# Altium footprint library 红外感应开关电路设计.PcbLib: 12 footprints
Each footprint in its own frame and in the unit in brackets; x right, y up, seen from the top. Pads: shape width x height; smd on the part's side, far side on the other; paste and mask are expansions set on the pad; w line width, h text height; cw(c..) or ccw(c..) is an arc to the next point about the centre after c.
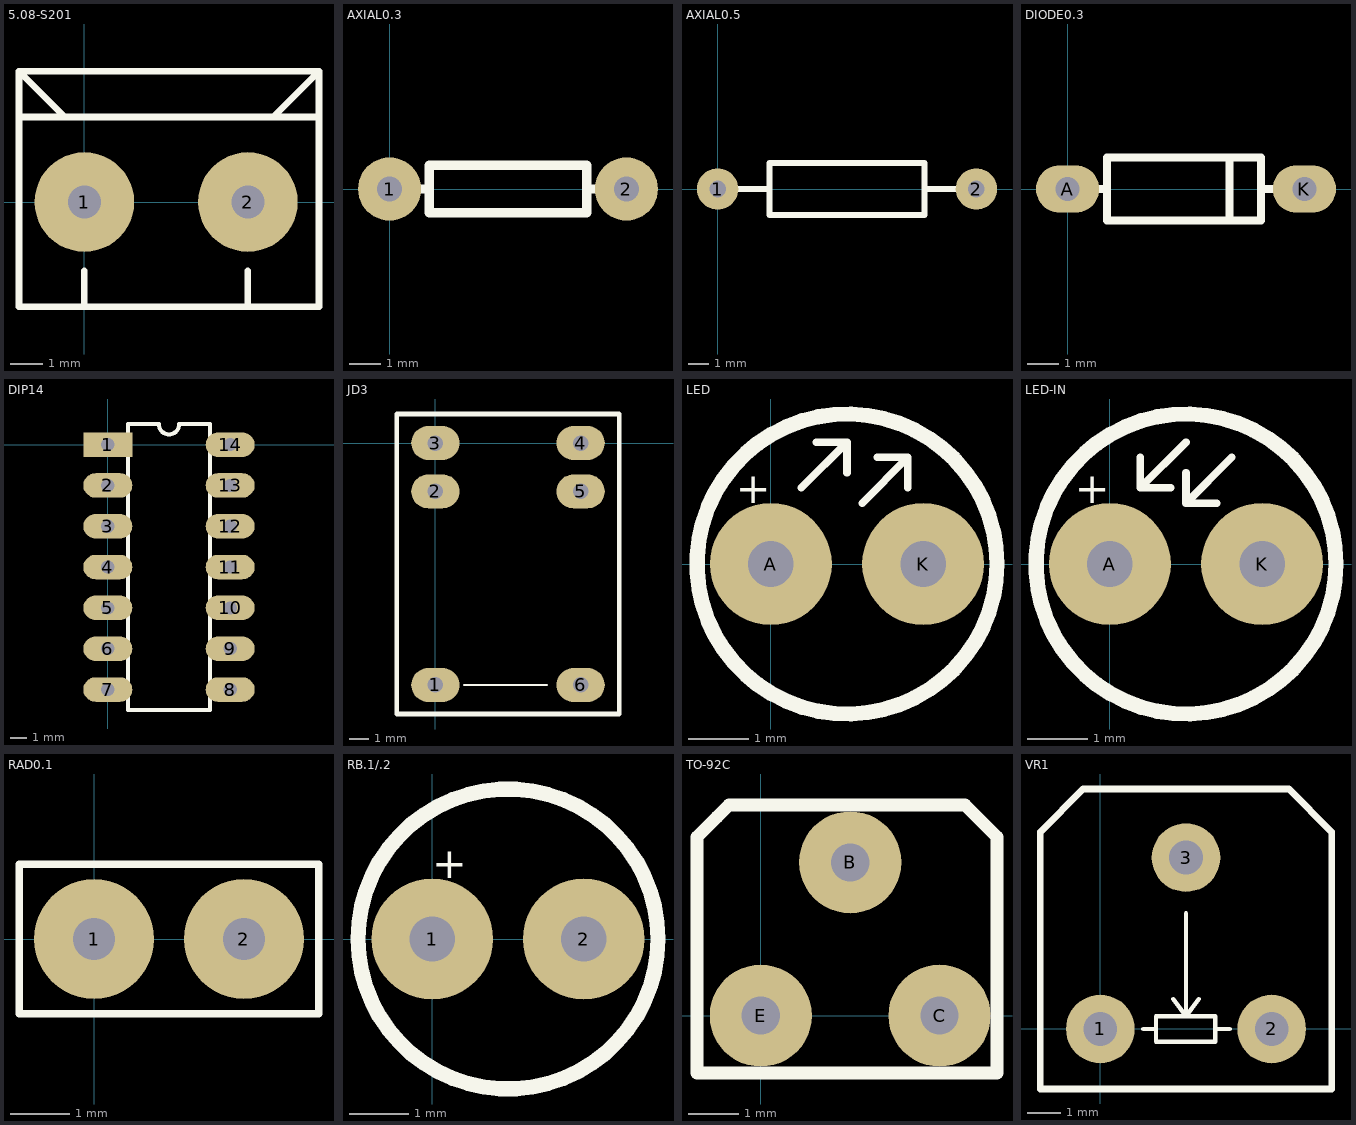
[diagram p0: the footprints below, top view; thin cyan lines are the x and y axes]

## 5.08-S201 [mil]
pads (2):
  round 120 hole 39.37: 1(0,0) 2(196.85,0)
Top Overlay:
  lines w8: -78.74,102.36 280,102.36 ; -23.62,102.36 -78.74,157.48 ; 0,-125.98 0,-82.68 ; 196.85,-125.98 196.85,-82.68 ; 227.32,102.36 282.44,157.48 ; -78.74,157.48 -78.74,-11.81 -78.74,-125.98 282.44,-125.98 282.44,157.48 ; -78.74,157.48 -78.74,157.48 ; -78.74,157.48 282.44,157.48

## AXIAL0.3 [mil]
pads (2):
  round 80 hole 32: 1(0,0) 2(300,0)
Top Overlay:
  lines w12: 41,0 50,0 ; 259,0 250,0 ; 250,0 250,-30 50,-30 50,30 250,30 250,0

## AXIAL0.5 [mil]
pads (2):
  round 80 hole 32: 1(0,0) 2(500,0)
Top Overlay:
  lines w12: 40,0 100,0 ; 400,0 460,0 ; 100,-50 100,50 400,50 400,-50 100,-50

## DIODE0.3 [mil]
pads (2):
  oval 80x60 hole 30: A(0,0) K(300,0)
Top Overlay:
  lines w10: 0,0 50,0 ; 140,-40 245,-40 245,0 245,40 150,40 50,40 50,0 ; 150,-40 50,-40 50,0 ; 205,-40 205,40 ; 250,0 300,0

## DIP14 [mil]
pads (14):
  rect 120x60 hole 32: 1(0,0)
  oval 120x60 hole 32: 2(0,-100) 3(0,-200) 4(0,-300) 5(0,-400) 6(0,-500) 7(0,-600) 8(300,-600) 9(300,-500) 10(300,-400) 11(300,-300) 12(300,-200) 13(300,-100) 14(300,0)
Top Overlay:
  lines w10: 50,-650 250,-650 250,50 175,50 cw(c150,50) 125,50 50,50 50,-650

## JD3 [mil]
pads (6):
  oval 100x70 hole 32: 1(0,-500) 2(0,-100) 3(0,0) 4(300,0) 5(300,-100) 6(300,-500)
Top Overlay:
  lines w5: 60,-500 230,-500 ; 140,-500 150,-500
  lines w10: -80,-560 380,-560 380,60 0,60 -80,60 -80,-560

## LED [mil]
pads (2):
  round 80 hole 30: A(0,0) K(100,0)
Top Overlay:
  circle w10: c50,0 r98.49
  lines w5: 20,50 50,80 ; 30,80 50,80 ; 50,60 50,80 ; 60,40 90,70 ; 70,70 90,70 ; 90,50 90,70
  text "+" at 0,40 h20

## LED-IN [mil]
pads (2):
  round 80 hole 30: A(0,0) K(100,0)
Top Overlay:
  circle w10: c50,0 r98.49
  lines w5: 20,70 20,50 ; 40,50 20,50 ; 50,60 50,40 ; 50,80 20,50 ; 70,40 50,40 ; 80,70 50,40
  text "+" at 0,40 h20

## RAD0.1 [mil]
pads (2):
  round 80 hole 28: 1(0,0) 2(100,0)
Top Overlay:
  lines w5: -50,-50 -50,50 150,50 150,-50 -50,-50

## RB.1/.2 [mil]
pads (2):
  round 80 hole 30: 1(0,0) 2(100,0)
Top Overlay:
  circle w10: c50,0 r99
  text "+" at 0,40 h20

## TO-92C [mil]
pads (3):
  round 80 hole 30: B(70,120) C(140,0) E(0,0)
Top Overlay:
  lines w10: -34.37,155.63 -50,140 ; -50,140 -25,165 160,165 185,140 185,-45 -40,-45 -50,-45 -50,140

## VR1 [mil]
pads (3):
  round 80 hole 39.37: 1(0,0) 2(200,0) 3(100,200)
Top Overlay:
  lines w5: 50,0 65,0 ; 85,35 100,15 ; 100,135 100,15 ; 115,35 100,15 ; 134,0 151,0 ; 65,0 65,15 134,15 134,-15 65,-15 65,0
  lines w8: -70,10 -70,230 -20,280 40,280 ; -70,170 -70,-70 270,-70 270,170 270,230 220,280 0,280